# Altium footprint library BluetoothTracking.PcbLib: 39 footprints (part 2 of 3)
Each footprint in its own frame and in the unit in brackets; x right, y up, seen from the top. Pads: shape width x height; smd on the part's side, far side on the other; paste and mask are expansions set on the pad; w line width, h text height; cw(c..) or ccw(c..) is an arc to the next point about the centre after c.
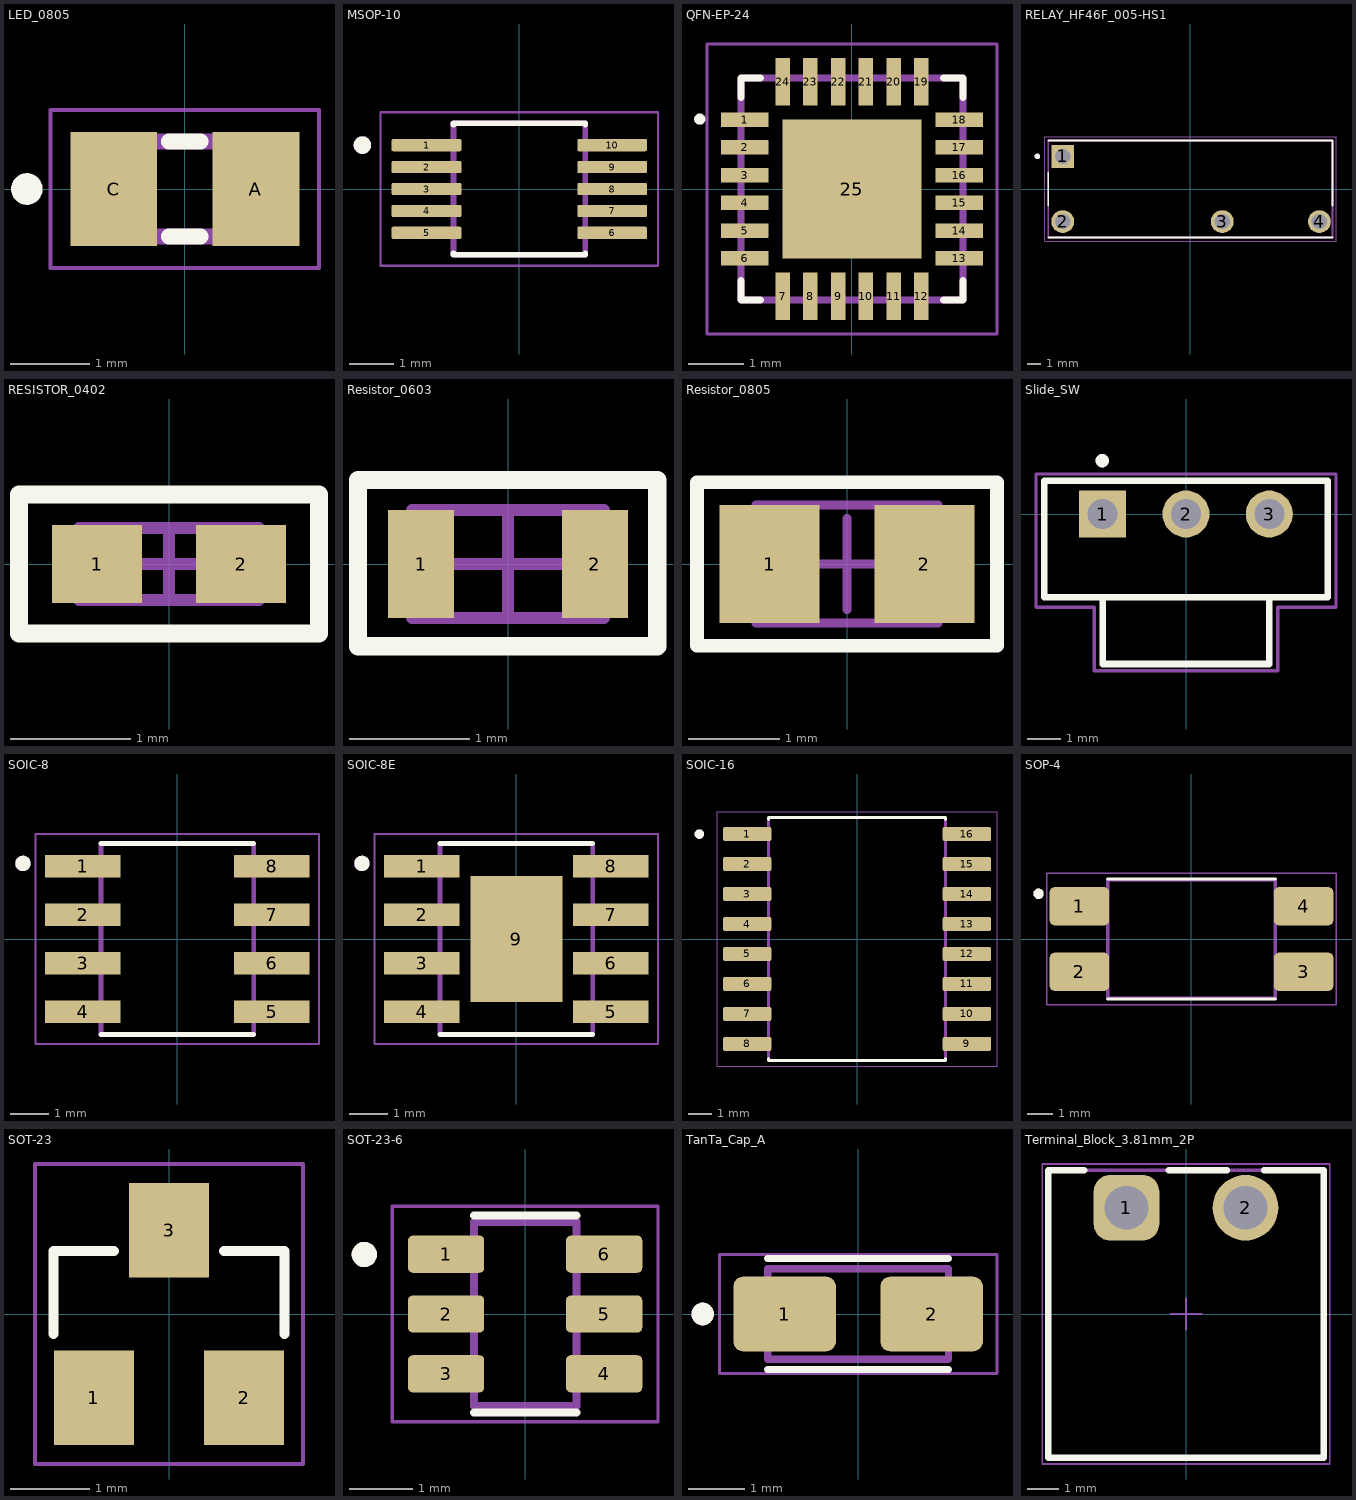
[diagram p1: the footprints below, top view; thin cyan lines are the x and y axes]

## LED_0805 [mm]
pads (2):
  rect 1.1x1.45 smd: A(0.9,0) C(-0.9,0)
Top Overlay:
  circle w0.2: c-2,0 r0.1
  lines w0.2: -0.2,-0.6 0.2,-0.6 ; -0.2,0.6 0.2,0.6
Mechanical 13:
  region: 1,-0.6 0.5,-0.6 0.5,0.6 1,0.6
  region: -0.5,-0.6 -1,-0.6 -1,0.6 -0.5,0.6
  lines w0.2: -1,-0.6 -1,0.6 1,0.6 1,-0.6 -1,-0.6
Mechanical 15:
  lines w0.05: -1.7,-1 -1.7,1 1.7,1 1.7,-1 -1.7,-1
3D body "step_temp.STEP": height 0.7, standoff 0, extent -1,-0.625 1,0.625

## MSOP-10 [mm]
pads (10):
  rrect25% 1.59x0.28 smd: 1(-2.115,1) 2(-2.115,0.5) 3(-2.115,0) 4(-2.115,-0.5) 5(-2.115,-1) 6(2.115,-1) 7(2.115,-0.5) 8(2.115,0) 9(2.115,0.5) 10(2.115,1)
Top Overlay:
  circle w0.2: c-3.576,1 r0.1
  lines w0.127: -1.5,-1.46 -1.5,-1.5 1.5,-1.5 1.5,-1.46 ; -1.5,1.46 -1.5,1.5 1.5,1.5 1.5,1.46
Mechanical 13:
  circle w0.2: c-3.576,1 r0.1
  lines w0.127: -1.5,-1.5 1.5,-1.5 1.5,1.5 -1.5,1.5 -1.5,-1.5
Mechanical 15:
  lines w0.05: -3.16,-1.75 3.16,-1.75 3.16,1.75 -3.16,1.75 -3.16,-1.75
3D body "step_temp.STEP": height 1, standoff 0, extent -2.45,-1.5 2.45,1.5

## QFN-EP-24 [mm]
pads (25):
  rrect7% 0.86x0.26 smd: 1(-1.935,1.25) 2(-1.935,0.75) 3(-1.935,0.25) 4(-1.935,-0.25) 5(-1.935,-0.75) 6(-1.935,-1.25) 13(1.935,-1.25) 14(1.935,-0.75) 15(1.935,-0.25) 16(1.935,0.25) 17(1.935,0.75) 18(1.935,1.25)
  rrect7% 0.26x0.86 smd: 7(-1.25,-1.935) 8(-0.75,-1.935) 9(-0.25,-1.935) 10(0.25,-1.935) 11(0.75,-1.935) 12(1.25,-1.935) 19(1.25,1.935) 20(0.75,1.935) 21(0.25,1.935) 22(-0.25,1.935) 23(-0.75,1.935) 24(-1.25,1.935)
  rect 2.5x2.5 smd paste-2: 25(0,0)
Top Overlay:
  circle w0.1: c-2.745,1.26 r0.05
  lines w0.127: -2,-1.65 -2,-2 -1.65,-2 ; -2,1.65 -2,2 -1.65,2 ; 1.65,-2 2,-2 2,-1.65 ; 1.65,2 2,2 2,1.65
Top Paste:
  region: 1.09,0.17 0.17,0.17 0.17,1.09 1.09,1.09
  region: -0.17,0.17 -1.091,0.17 -1.091,1.09 -0.17,1.09
  region: -0.17,-1.092 -1.092,-1.092 -1.092,-0.17 -0.17,-0.17
  region: 1.09,-1.09 0.17,-1.09 0.17,-0.17 1.09,-0.17
Mechanical 13:
  circle w0.1: c-2.195,1.26 r0.05
  lines w0.127: -2,-2 2,-2 2,2 -2,2 -2,-2
Mechanical 15:
  lines w0.05: -2.615,-2.615 2.615,-2.615 2.615,2.615 -2.615,2.615 -2.615,-2.615
3D body "step_temp.STEP": height 0.95, standoff -0.05, extent -2,-2 2,2

## RELAY_HF46F_005-HS1 [mm]
height 15.6
pads (4):
  rect 1.65x1.65 / inner round 1.65 / far side rect 1.65x1.65 hole 1.1: 1(-9.2,2.35)
  round 1.65 hole 1.1: 2(-9.2,-2.35) 3(2.3,-2.35) 4(9.3,-2.35)
Top Overlay:
  circle w0.2: c-11.025,2.35 r0.1
  lines w0.127: -10.25,-3.495 -10.25,-3.5 10.25,-3.5 10.25,-3.495 ; -10.25,-1.205 -10.25,1.205 ; -10.25,3.495 -10.25,3.5 10.25,3.5 10.25,-1.205
Mechanical 13:
  circle w0.2: c-11.025,2.35 r0.1
  lines w0.127: -10.25,-3.5 -10.25,3.5 10.25,3.5 10.25,-3.5 -10.25,-3.5
Mechanical 15:
  lines w0.05: -10.5,-3.75 -10.5,3.75 10.5,3.75 10.5,-3.75 -10.5,-3.75
3D body "HF46F_005-HS1.STEP": height 15.6, standoff -3.7, extent -10.109,-3.581 10.391,3.419

## RESISTOR_0402 [mm] "Chip Resistor, 2-Leads, Body 1.50x0.60mm, IPC Medium Density"
height 0.35
pads (2):
  rect 0.75x0.65 smd: 1(-0.6,0) 2(0.6,0)
Top Overlay:
  lines w0.152: -1.25,-0.58 -1.25,0.58 1.25,0.58 1.25,-0.58 -1.25,-0.58
Top Courtyard:
  lines w0.05: -1.25,-0.6 -1.25,0.6 1.25,0.6 1.25,-0.6 -1.25,-0.6
  lines w0.1: -0.3,0 0.3,0 ; 0,-0.3 0,0.3
Mechanical 13:
  lines w0.1: -0.75,-0.3 -0.75,0.3 0.75,0.3 0.75,-0.3 -0.75,-0.3
3D body: height 0.35, standoff 0, extent -0.25,-0.3 0.25,0.3
3D body: height 0.35, standoff 0, extent -0.75,-0.3 -0.25,0.3
3D body: height 0.35, standoff 0, extent 0.25,-0.3 0.75,0.3

## Resistor_0603 [mm]
pads (2):
  rect 0.55x0.9 smd: 1(-0.725,0) 2(0.725,0)
Top Overlay:
  lines w0.152: -1.25,-0.686 -1.25,0.7 1.245,0.7 1.245,-0.686 -1.25,-0.686
Mechanical 13:
  lines w0.1: -0.8,-0.45 -0.8,0.45 0.8,0.45 0.8,-0.45 -0.8,-0.45
Mechanical 15:
  lines w0.05: -1.25,-0.7 -1.25,0.7 1.25,0.7 1.25,-0.7 -1.25,-0.7
  lines w0.1: -0.45,0 0.45,0 ; 0,-0.45 0,0.45
3D body: height 0.5, standoff 0, extent -0.5,-0.45 0.5,0.45
3D body: height 0.5, standoff 0, extent -0.8,-0.45 -0.5,0.45
3D body: height 0.5, standoff 0, extent 0.5,-0.45 0.8,0.45

## Resistor_0805 [mm] "Chip Resistor, 2-Leads, Body 2,00x1,20mm, IPC Medium Density"
height 0.45
pads (2):
  rect 1.1x1.3 smd: 1(-0.85,0) 2(0.85,0)
Top Overlay:
  lines w0.152: -1.65,-0.9 -1.65,0.9 1.65,0.9 1.65,-0.9 -1.65,-0.9
Mechanical 13:
  lines w0.1: -1,-0.65 -1,0.65 1,0.65 1,-0.65 -1,-0.65
Mechanical 15:
  lines w0.05: -1.65,-0.9 -1.65,0.9 1.65,0.9 1.65,-0.9 -1.65,-0.9
  lines w0.1: -0.5,0 0.5,0 ; 0,-0.5 0,0.5
3D body "RESC2012X04N.step": height 0.45, standoff 0, extent -1,-0.65 1,0.65

## Slide_SW [mm]
pads (3):
  rect 1.408x1.408 hole 0.9: 1(-2.5,0)
  round 1.408 hole 0.9: 2(0,0) 3(2.5,0)
Top Overlay:
  circle w0.2: c-2.513,1.6 r0.1
  lines w0.2: -2.5,-2.5 -2.5,-4.5 2.5,-4.5 2.5,-2.5 ; -4.25,-2.5 4.25,-2.5 4.25,1 -4.25,1 -4.25,-2.5
Mechanical 13:
  circle w0.2: c-2.513,1.6 r0.1
  lines w0.1: -2.5,-2.5 -2.5,-4.5 2.5,-4.5 2.5,-2.5 ; -4.5,-2.8 -2.75,-2.8 -2.75,-4.7 2.75,-4.7 2.75,-2.8 4.5,-2.8 4.5,1.2 -4.5,1.2 -4.5,-2.8

## SOIC-8 [mm]
pads (8):
  rect 1.97x0.6 smd: 1(-2.475,1.905) 2(-2.475,0.635) 3(-2.475,-0.635) 4(-2.475,-1.905) 5(2.475,-1.905) 6(2.475,-0.635) 7(2.475,0.635) 8(2.475,1.905)
Top Overlay:
  circle w0.2: c-4.04,1.98 r0.1
  lines w0.127: -2,-2.5 2,-2.5 ; -2,2.5 2,2.5
Mechanical 13:
  circle w0.2: c-4.044,1.977 r0.1
  lines w0.127: -2,-2.5 2,-2.5 2,2.5 -2,2.5 -2,-2.5
Mechanical 15:
  lines w0.05: -3.71,-2.75 3.71,-2.75 3.71,2.75 -3.71,2.75 -3.71,-2.75
3D body "SOIC-8E.STEP": height 1.7, standoff 0, extent -3,-2.45 3,2.45

## SOIC-8E [mm]
pads (9):
  rect 1.97x0.6 smd: 1(-2.475,1.905) 2(-2.475,0.635) 3(-2.475,-0.635) 4(-2.475,-1.905) 5(2.475,-1.905) 6(2.475,-0.635) 7(2.475,0.635) 8(2.475,1.905)
  rect 2.41x3.3 smd paste-3: 9(0,0)
Top Overlay:
  circle w0.2: c-4.04,1.98 r0.1
  lines w0.127: -2,-2.5 2,-2.5 ; -2,2.5 2,2.5
Top Paste:
  region: 0.762,-1.042 -0.763,-1.042 -0.763,1.04 0.762,1.04
Mechanical 13:
  circle w0.2: c-4.044,1.977 r0.1
  lines w0.127: -2,-2.5 -2,2.5 2,2.5 2,-2.5 -2,-2.5
Mechanical 15:
  lines w0.05: -3.71,-2.75 -3.71,2.75 3.71,2.75 3.71,-2.75 -3.71,-2.75
3D body "SOIC-8E.STEP": height 1.7, standoff 0, extent -3,-2.45 3,2.45

## SOIC-16 [mm]
height 2.65
pads (16):
  rrect25% 2.05x0.59 smd: 1(-4.655,4.445) 2(-4.655,3.175) 3(-4.655,1.905) 4(-4.655,0.635) 5(-4.655,-0.635) 6(-4.655,-1.905) 7(-4.655,-3.175) 8(-4.655,-4.445) 9(4.655,-4.445) 10(4.655,-3.175) 11(4.655,-1.905) 12(4.655,-0.635) 13(4.655,0.635) 14(4.655,1.905) 15(4.655,3.175) 16(4.655,4.445)
Top Overlay:
  circle w0.2: c-6.68,4.445 r0.1
  lines w0.127: -3.75,-5.06 -3.75,-5.15 3.75,-5.15 3.75,-5.06 ; -3.75,5.06 -3.75,5.15 3.75,5.15 3.75,5.06
Mechanical 13:
  circle w0.2: c-6.68,4.445 r0.1
  lines w0.127: -3.75,-5.15 -3.75,5.15 3.75,5.15 3.75,-5.15 -3.75,-5.15
Mechanical 15:
  lines w0.05: -5.93,-5.4 5.93,-5.4 5.93,5.4 -5.93,5.4 -5.93,-5.4
3D body "step_temp.STEP": height 2.65, standoff 0, extent -5.162,-5.15 5.162,5.15

## SOP-4 [mm]
height 4.2
pads (4):
  rrect25% 2.3x1.48 smd: 1(-4.35,1.27) 2(-4.35,-1.27) 3(4.35,-1.27) 4(4.35,1.27)
Top Overlay:
  circle w0.2: c-5.93,1.755 r0.1
  lines w0.127: -3.25,-2.33 3.25,-2.33 ; -3.25,2.33 3.25,2.33
Mechanical 13:
  circle w0.2: c-5.93,1.755 r0.1
  lines w0.127: -3.25,-2.3 3.25,-2.3 3.25,2.3 -3.25,2.3 -3.25,-2.3
Mechanical 15:
  lines w0.05: -5.605,-2.55 5.605,-2.55 5.605,2.55 -5.605,2.55 -5.605,-2.55
3D body "step_temp.STEP": height 4, standoff 0, extent -4.875,-2.29 4.875,2.29

## SOT-23 [mm]
pads (3):
  rect 1.016x1.2 smd: 1(-0.95,-1.06) 2(0.95,-1.06) 3(0,1.06)
Top Overlay:
  lines w0.127: -1.46,-0.254 -1.46,0.8 -0.699,0.8 ; 0.699,0.8 1.46,0.8 1.46,-0.254
Mechanical 13:
  region: 0.229,0.839 -0.229,0.839 -0.229,1.422 0.229,1.422
  region: 1.168,-1.424 0.712,-1.424 0.712,-0.838 1.168,-0.838
  region: -0.711,-1.423 -1.169,-1.423 -1.169,-0.838 -0.711,-0.838
Mechanical 15:
  lines w0.05: -1.7,-1.9 1.7,-1.9 1.7,1.9 -1.7,1.9 -1.7,-1.9
3D body "SOT23-3.STEP": height 1.3, standoff 0, extent -1.45,-1.375 1.45,1.425

## SOT-23-6 [mm]
pads (6):
  rrect25% 1.21x0.59 smd: 1(-1.255,0.95) 2(-1.255,0) 3(-1.255,-0.95) 4(1.255,-0.95) 5(1.255,0) 6(1.255,0.95)
Top Overlay:
  circle w0.2: c-2.555,0.945 r0.1
  lines w0.127: -0.813,-1.565 0.813,-1.565 ; -0.813,1.565 0.813,1.565
Mechanical 13:
  circle w0.2: c-2.555,0.945 r0.1
  lines w0.127: -0.813,-1.462 0.813,-1.462 0.813,1.462 -0.813,1.462 -0.813,-1.462
Mechanical 15:
  lines w0.05: -2.11,-1.713 -2.11,1.713 2.11,1.713 2.11,-1.713 -2.11,-1.713
3D body "step_temp.STEP": height 1.44, standoff -0.01, extent -1.4,-1.462 1.4,1.462

## TanTa_Cap_A [mm] "Size 1206"
pads (2):
  rrect25% 1.81x1.32 smd: 1(-1.3,0) 2(1.3,0)
Top Overlay:
  circle w0.2: c-2.75,0 r0.1
  lines w0.127: -1.6,-0.98 1.6,-0.98 ; -1.6,0.98 1.6,0.98
Mechanical 13:
  circle w0.2: c-2.75,0 r0.1
  lines w0.127: -1.6,-0.8 1.6,-0.8 1.6,0.8 -1.6,0.8 -1.6,-0.8
Mechanical 15:
  lines w0.05: -2.455,-1.05 -2.455,1.05 2.455,1.05 2.455,-1.05 -2.455,-1.05

## Terminal_Block_3.81mm_2P [mm] "Horizontal PCB Header, pitch 3.81mm, 02p"
height 7
pads (2):
  rrect50% 2.1x2.1 hole 1.4: 1(-1.905,3.4)
  round 2.1 hole 1.4: 2(1.905,3.4)
Top Overlay:
  lines w0.2: -3.255,4.6 -4.405,4.6 -4.405,-4.6 4.405,-4.6 4.405,4.6 2.495,4.6 ; -0.555,4.6 1.315,4.6
Top 3D Body:
  lines w0.1: -4.405,-4.6 -4.405,4.6 4.405,4.6 4.405,-4.6 -4.405,-4.6
Top Courtyard:
  lines w0.05: -4.605,-4.8 4.605,-4.8 4.605,4.8 -4.605,4.8 -4.605,-4.8
Top Designator:
  text ".Designator" at -7.498,-0.5 h1.5
Top Component Outline:
  lines w0.1: -4.405,-4.6 4.405,-4.6 4.405,4.6 -4.405,4.6 -4.405,-4.6
Top Component Center:
  lines w0.05: -0.5,0 0.5,0 ; 0,-0.5 0,0.5
3D body "691322310002.stp": height 7.25, standoff -3.45, extent -4.405,-4.6 4.405,4.6